# Altium integrated library mcus_nxp.IntLib: 5 symbols
Pins are listed as number, name and electrical type; pins without a type are passive.

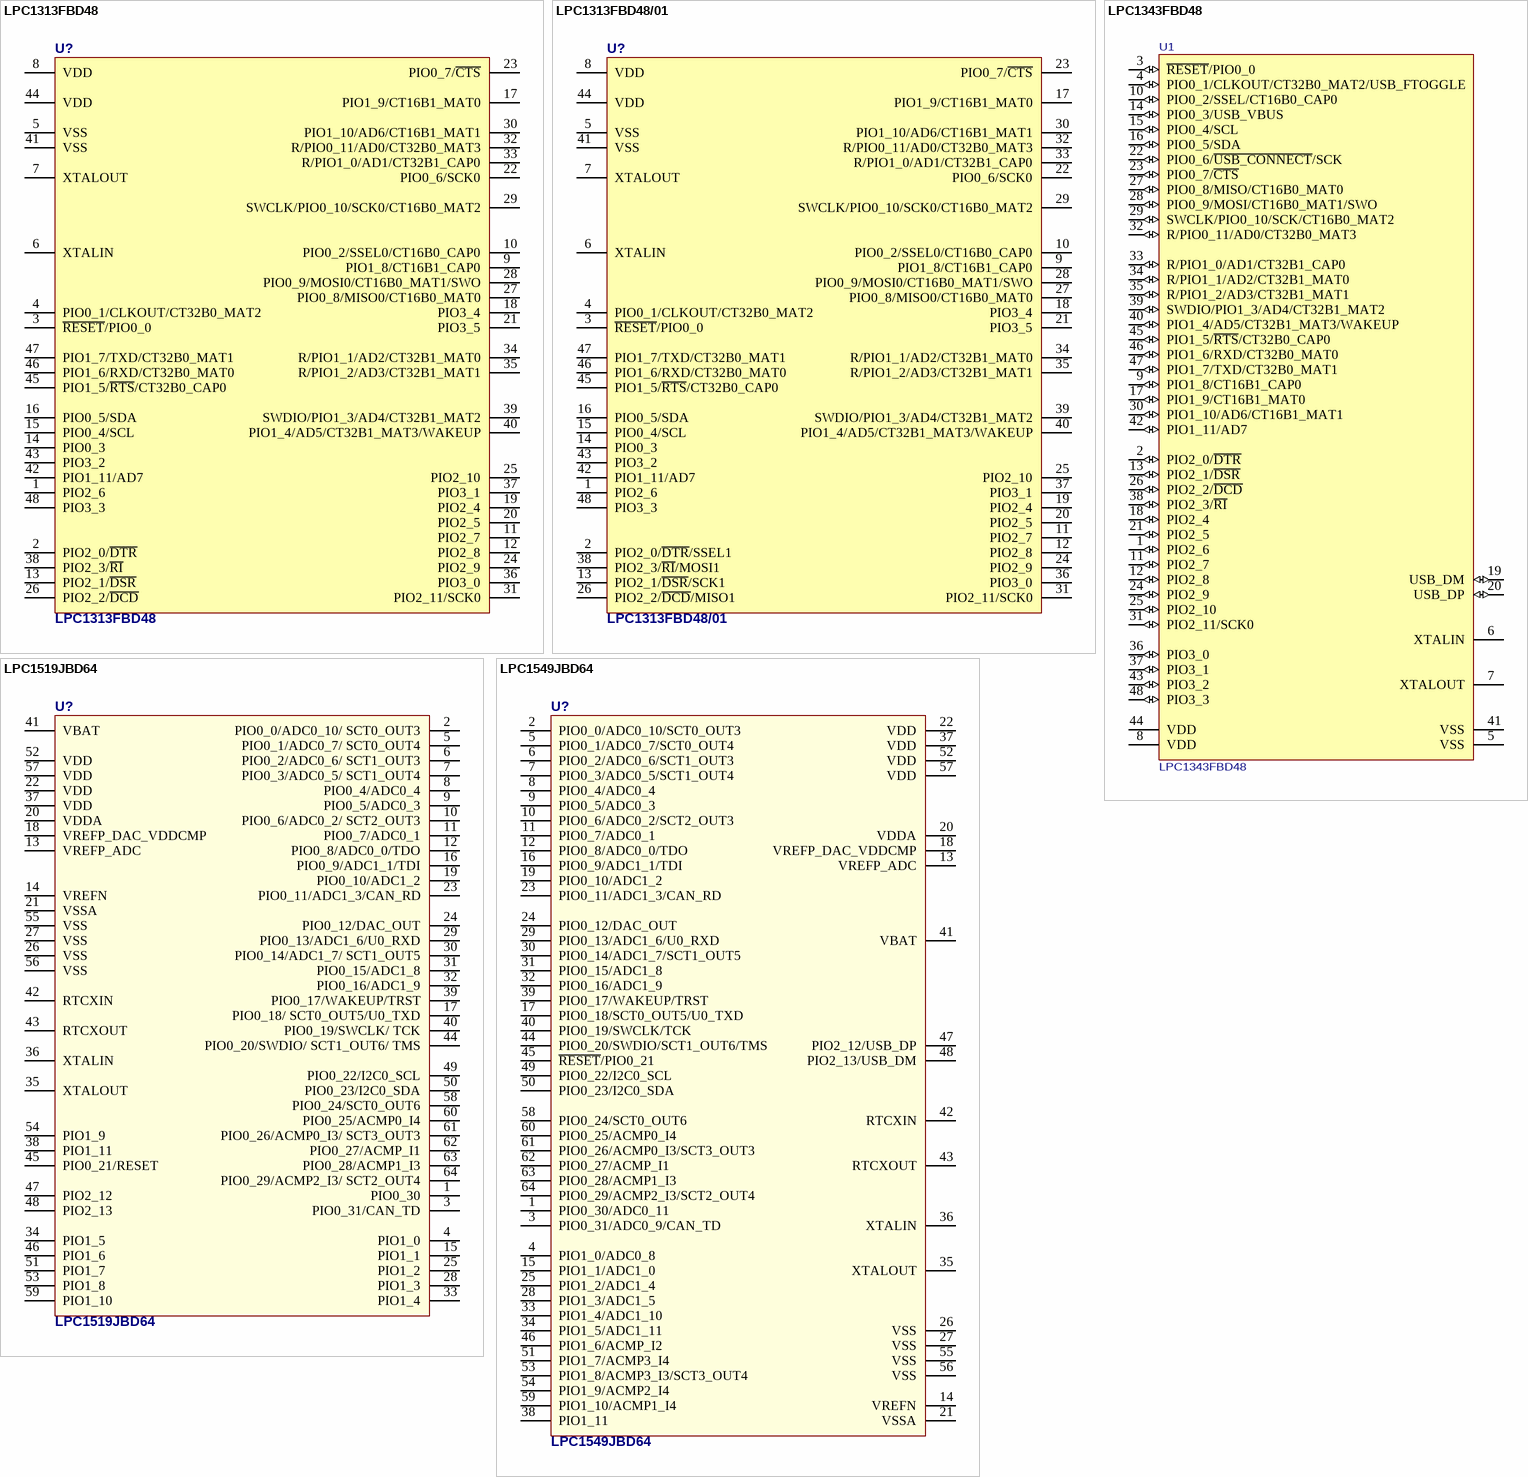
[diagram p0: symbols LPC1313FBD48 to LPC1549JBD64]

## LPC1313FBD48
designator U?
ARM Cortex-M3-based, 72 MHz, 32 kB flash, 8 kB data, one Fm+ I2C, UART, 4x TIMERs and up to 42 general purpose I/O MCU
footprint LQFP48 (QFP; 48 Leads; Body 7 x 7 mm; Pitch 0.5 mm)
pins: 1 PIO2_6, 2 PIO2_0/~{DTR}, 3 ~{RESET}/PIO0_0, 4 PIO0_1/CLKOUT/CT32B0_MAT2, 5 VSS (power), 6 XTALIN, 7 XTALOUT, 8 VDD (power), 9 PIO1_8/CT16B1_CAP0, 10 PIO0_2/SSEL0/CT16B0_CAP0, 11 PIO2_7, 12 PIO2_8, 13 PIO2_1/~{DSR}, 14 PIO0_3, 15 PIO0_4/SCL, 16 PIO0_5/SDA, 17 PIO1_9/CT16B1_MAT0, 18 PIO3_4, 19 PIO2_4, 20 PIO2_5, 21 PIO3_5, 22 PIO0_6/SCK0, 23 PIO0_7/~{CTS}, 24 PIO2_9, 25 PIO2_10, 26 PIO2_2/~{DCD}, 27 PIO0_8/MISO0/CT16B0_MAT0, 28 PIO0_9/MOSI0/CT16B0_MAT1/SWO, 29 SWCLK/PIO0_10/SCK0/CT16B0_MAT2, 30 PIO1_10/AD6/CT16B1_MAT1, 31 PIO2_11/SCK0, 32 R/PIO0_11/AD0/CT32B0_MAT3, 33 R/PIO1_0/AD1/CT32B1_CAP0, 34 R/PIO1_1/AD2/CT32B1_MAT0, 35 R/PIO1_2/AD3/CT32B1_MAT1, 36 PIO3_0, 37 PIO3_1, 38 PIO2_3/~{RI}, 39 SWDIO/PIO1_3/AD4/CT32B1_MAT2, 40 PIO1_4/AD5/CT32B1_MAT3/WAKEUP, 41 VSS (power), 42 PIO1_11/AD7, 43 PIO3_2, 44 VDD (power), 45 PIO1_5/~{RTS}/CT32B0_CAP0, 46 PIO1_6/RXD/CT32B0_MAT0, 47 PIO1_7/TXD/CT32B0_MAT1, 48 PIO3_3
1 alternate drawing of the same symbol

## LPC1313FBD48/01
designator U?
ARM Cortex-M3-based, 72 MHz, 32 kB flash, 8 kB data, one Fm+ I2C, UART, 4x TIMERs and up to 42 general purpose I/O MCU
footprint LQFP48 (QFP; 48 Leads; Body 7 x 7 mm; Pitch 0.5 mm)
pins: 1 PIO2_6, 2 PIO2_0/~{DTR}/SSEL1, 3 ~{RESET}/PIO0_0, 4 PIO0_1/CLKOUT/CT32B0_MAT2, 5 VSS (power), 6 XTALIN, 7 XTALOUT, 8 VDD (power), 9 PIO1_8/CT16B1_CAP0, 10 PIO0_2/SSEL0/CT16B0_CAP0, 11 PIO2_7, 12 PIO2_8, 13 PIO2_1/~{DSR}/SCK1, 14 PIO0_3, 15 PIO0_4/SCL, 16 PIO0_5/SDA, 17 PIO1_9/CT16B1_MAT0, 18 PIO3_4, 19 PIO2_4, 20 PIO2_5, 21 PIO3_5, 22 PIO0_6/SCK0, 23 PIO0_7/~{CTS}, 24 PIO2_9, 25 PIO2_10, 26 PIO2_2/~{DCD}/MISO1, 27 PIO0_8/MISO0/CT16B0_MAT0, 28 PIO0_9/MOSI0/CT16B0_MAT1/SWO, 29 SWCLK/PIO0_10/SCK0/CT16B0_MAT2, 30 PIO1_10/AD6/CT16B1_MAT1, 31 PIO2_11/SCK0, 32 R/PIO0_11/AD0/CT32B0_MAT3, 33 R/PIO1_0/AD1/CT32B1_CAP0, 34 R/PIO1_1/AD2/CT32B1_MAT0, 35 R/PIO1_2/AD3/CT32B1_MAT1, 36 PIO3_0, 37 PIO3_1, 38 PIO2_3/~{RI}/MOSI1, 39 SWDIO/PIO1_3/AD4/CT32B1_MAT2, 40 PIO1_4/AD5/CT32B1_MAT3/WAKEUP, 41 VSS (power), 42 PIO1_11/AD7, 43 PIO3_2, 44 VDD (power), 45 PIO1_5/~{RTS}/CT32B0_CAP0, 46 PIO1_6/RXD/CT32B0_MAT0, 47 PIO1_7/TXD/CT32B0_MAT1, 48 PIO3_3
1 alternate drawing of the same symbol

## LPC1343FBD48
designator U1
Cortex-M3, 32-Bit ARM MCU, 32 kB flash, 8 kB SRAM, 72 MHz USB device, 48-Pin LQFP; fmax: 72 MHz; SRAM: 8 kB; Flash: 32 kB; GPIOs: 40; USB: 1; PLL: Y; ADC channels: 8; Timers: 4; VDD (min): 2 V; VDD (typ): 3.3 V; VDD (max): 3.6 V; Code_IEC: 136E05; DatasheetVersion: Rev. 4, Jun-2011; PackageVersion: 37677; PackageReference: SOT313-2; PackageDescription: LQFP48: Plastic Low Profile Quad Flat Package; 48 Leads; Body 7 x 7 x 1.4 mm; UART: 1; I2C: 1; SPI: 1; SSP: 1; Code_JEDEC: MS-026; PartNumber: LPC1343FBD48; ComponentLink1Description: Manufacturer URL; ComponentLink1URL: http://www.nxp.com/; ComponentLink2Description: Datasheet; ComponentLink2URL: http://www.nxp.com/documents/data_sheet/LPC1311_13_42_43.pdf
footprint SOT313-2_V (Thin QFP, 48-Leads, Body 7x7mm, Pitch 0.5mm, NXP Recommended)
pins: 1 PIO2_6 (io), 2 PIO2_0/~{DTR} (io), 3 ~{RESET}/PIO0_0 (io), 4 PIO0_1/CLKOUT/CT32B0_MAT2/USB_FTOGGLE (io), 5 VSS (power), 6 XTALIN, 7 XTALOUT, 8 VDD (power), 9 PIO1_8/CT16B1_CAP0 (io), 10 PIO0_2/SSEL/CT16B0_CAP0 (io), 11 PIO2_7 (io), 12 PIO2_8 (io), 13 PIO2_1/~{DSR} (io), 14 PIO0_3/USB_VBUS (io), 15 PIO0_4/SCL (io), 16 PIO0_5/SDA (io), 17 PIO1_9/CT16B1_MAT0 (io), 18 PIO2_4 (io), 19 USB_DM (io), 20 USB_DP (io), 21 PIO2_5 (io), 22 PIO0_6/~{USB_CONNECT}/SCK (io), 23 PIO0_7/~{CTS} (io), 24 PIO2_9 (io), 25 PIO2_10 (io), 26 PIO2_2/~{DCD} (io), 27 PIO0_8/MISO/CT16B0_MAT0 (io), 28 PIO0_9/MOSI/CT16B0_MAT1/SWO (io), 29 SWCLK/PIO0_10/SCK/CT16B0_MAT2 (io), 30 PIO1_10/AD6/CT16B1_MAT1 (io), 31 PIO2_11/SCK0 (io), 32 R/PIO0_11/AD0/CT32B0_MAT3 (io), 33 R/PIO1_0/AD1/CT32B1_CAP0 (io), 34 R/PIO1_1/AD2/CT32B1_MAT0 (io), 35 R/PIO1_2/AD3/CT32B1_MAT1 (io), 36 PIO3_0 (io), 37 PIO3_1 (io), 38 PIO2_3/~{RI} (io), 39 SWDIO/PIO1_3/AD4/CT32B1_MAT2 (io), 40 PIO1_4/AD5/CT32B1_MAT3/WAKEUP (io), 41 VSS (power), 42 PIO1_11/AD7 (io), 43 PIO3_2 (io), 44 VDD (power), 45 PIO1_5/~{RTS}/CT32B0_CAP0 (io), 46 PIO1_6/RXD/CT32B0_MAT0 (io), 47 PIO1_7/TXD/CT32B0_MAT1 (io), 48 PIO3_3 (io)

## LPC1519JBD64
designator U?
ARM Cortex-M3 based, 72MHz, 256 kB flash, 36 kB SRAM; CAN, RTC, 2xSPI, 3xUSART, I2C
footprint LQFP64 (Thin QFP, 64-Leads, Body 10x10mm, Pitch 0.5mm, NXP Recommended)
pins: 1 PIO0_30, 2 PIO0_0/ADC0_10/ SCT0_OUT3, 3 PIO0_31/CAN_TD, 4 PIO1_0, 5 PIO0_1/ADC0_7/ SCT0_OUT4, 6 PIO0_2/ADC0_6/ SCT1_OUT3, 7 PIO0_3/ADC0_5/ SCT1_OUT4, 8 PIO0_4/ADC0_4, 9 PIO0_5/ADC0_3, 10 PIO0_6/ADC0_2/ SCT2_OUT3, 11 PIO0_7/ADC0_1, 12 PIO0_8/ADC0_0/TDO, 13 VREFP_ADC, 14 VREFN, 15 PIO1_1, 16 PIO0_9/ADC1_1/TDI (power), 17 PIO0_18/ SCT0_OUT5/U0_TXD (power), 18 VREFP_DAC_VDDCMP, 19 PIO0_10/ADC1_2, 20 VDDA (power), 21 VSSA, 22 VDD, 23 PIO0_11/ADC1_3/CAN_RD, 24 PIO0_12/DAC_OUT, 25 PIO1_2, 26 VSS, 27 VSS (power), 28 PIO1_3, 29 PIO0_13/ADC1_6/U0_RXD, 30 PIO0_14/ADC1_7/ SCT1_OUT5, 31 PIO0_15/ADC1_8, 32 PIO0_16/ADC1_9, 33 PIO1_4, 34 PIO1_5, 35 XTALOUT, 36 XTALIN, 37 VDD, 38 PIO1_11, 39 PIO0_17/WAKEUP/TRST (power), 40 PIO0_19/SWCLK/ TCK (power), 41 VBAT (power), 42 RTCXIN (power), 43 RTCXOUT, 44 PIO0_20/SWDIO/ SCT1_OUT6/ TMS (power), 45 PIO0_21/RESET, 46 PIO1_6, 47 PIO2_12, 48 PIO2_13, 49 PIO0_22/I2C0_SCL, 50 PIO0_23/I2C0_SDA, 51 PIO1_7, 52 VDD, 53 PIO1_8, 54 PIO1_9, 55 VSS, 56 VSS, 57 VDD, 58 PIO0_24/SCT0_OUT6, 59 PIO1_10, 60 PIO0_25/ACMP0_I4, 61 PIO0_26/ACMP0_I3/ SCT3_OUT3, 62 PIO0_27/ACMP_I1, 63 PIO0_28/ACMP1_I3, 64 PIO0_29/ACMP2_I3/ SCT2_OUT4

## LPC1549JBD64
designator U?
ARM Cortex-M3 based, 72MHz, 256 kB flash, 36 kB SRAM; FS USB, CAN, RTC, 2xSPI, 3xUSART, I2C
footprint LQFP64 (Thin QFP, 64-Leads, Body 14x14mm, Pitch 0.5mm, IPC Medium Density)
pins: 1 PIO0_30/ADC0_11, 2 PIO0_0/ADC0_10/SCT0_OUT3, 3 PIO0_31/ADC0_9/CAN_TD, 4 PIO1_0/ADC0_8 , 5 PIO0_1/ADC0_7/SCT0_OUT4, 6 PIO0_2/ADC0_6/SCT1_OUT3, 7 PIO0_3/ADC0_5/SCT1_OUT4, 8 PIO0_4/ADC0_4, 9 PIO0_5/ADC0_3, 10 PIO0_6/ADC0_2/SCT2_OUT3, 11 PIO0_7/ADC0_1, 12 PIO0_8/ADC0_0/TDO, 13 VREFP_ADC, 14 VREFN, 15 PIO1_1/ADC1_0, 16 PIO0_9/ADC1_1/TDI (power), 17 PIO0_18/SCT0_OUT5/U0_TXD (power), 18 VREFP_DAC_VDDCMP, 19 PIO0_10/ADC1_2, 20 VDDA (power), 21 VSSA, 22 VDD, 23 PIO0_11/ADC1_3/CAN_RD, 24 PIO0_12/DAC_OUT, 25 PIO1_2/ADC1_4, 26 VSS, 27 VSS (power), 28 PIO1_3/ADC1_5, 29 PIO0_13/ADC1_6/U0_RXD, 30 PIO0_14/ADC1_7/SCT1_OUT5, 31 PIO0_15/ADC1_8, 32 PIO0_16/ADC1_9, 33 PIO1_4/ADC1_10, 34 PIO1_5/ADC1_11, 35 XTALOUT, 36 XTALIN, 37 VDD, 38 PIO1_11, 39 PIO0_17/WAKEUP/TRST (power), 40 PIO0_19/SWCLK/TCK (power), 41 VBAT (power), 42 RTCXIN (power), 43 RTCXOUT, 44 PIO0_20/SWDIO/SCT1_OUT6/TMS (power), 45 ~{RESET}/PIO0_21, 46 PIO1_6/ACMP_I2, 47 PIO2_12/USB_DP, 48 PIO2_13/USB_DM, 49 PIO0_22/I2C0_SCL, 50 PIO0_23/I2C0_SDA, 51 PIO1_7/ACMP3_I4, 52 VDD, 53 PIO1_8/ACMP3_I3/SCT3_OUT4, 54 PIO1_9/ACMP2_I4, 55 VSS, 56 VSS, 57 VDD, 58 PIO0_24/SCT0_OUT6, 59 PIO1_10/ACMP1_I4, 60 PIO0_25/ACMP0_I4, 61 PIO0_26/ACMP0_I3/SCT3_OUT3, 62 PIO0_27/ACMP_I1, 63 PIO0_28/ACMP1_I3, 64 PIO0_29/ACMP2_I3/SCT2_OUT4